# Altium footprint library thx208.PcbLib: 1 footprints
Each footprint in its own frame and in the unit in brackets; x right, y up, seen from the top. Pads: shape width x height; smd on the part's side, far side on the other; paste and mask are expansions set on the pad; w line width, h text height; cw(c..) or ccw(c..) is an arc to the next point about the centre after c.
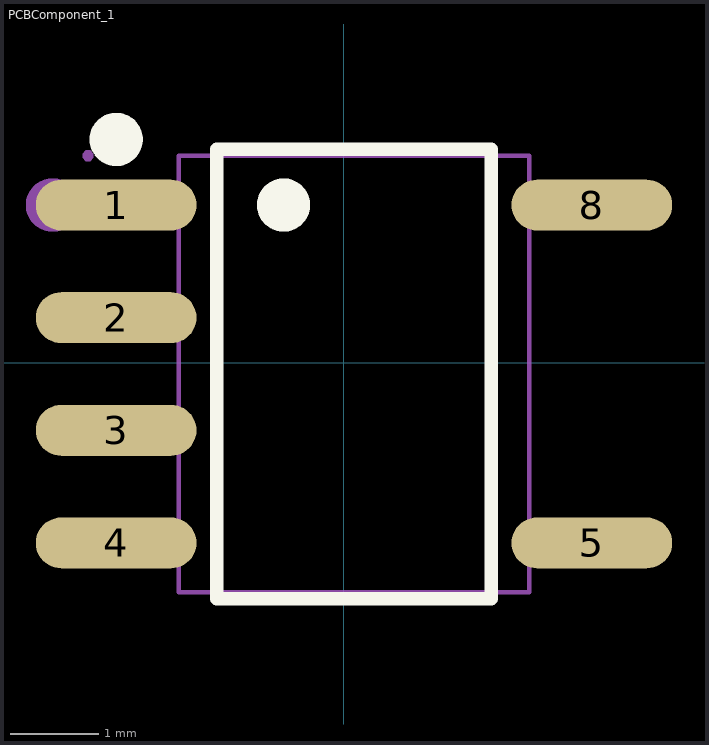
[diagram p0: the footprint, top view; thin cyan lines are the x and y axes]

## PCBComponent_1 [mil]
pads (6):
  oval 71.34x22.6 smd: 1(-101.1,70) 2(-101.1,20) 3(-101.1,-30) 4(-101.1,-80) 5(110,-80) 8(110,70)
Top Overlay:
  circle w11.81: c-101.1,99.11 r5.91
  circle w11.81: c-26.81,70 r5.91
  lines w6: -56.43,-104.85 -56.43,94.85 65.33,94.85 65.33,-104.85 -56.43,-104.85
Mechanical 6:
  circle w11.81: c-129.41,70 r5.91
Mechanical 15:
  region: 103.27,-71.93 81.81,-71.93 81.81,-88.07 103.27,-88.07
  region: 122.56,-71.93 102.88,-71.93 102.88,-88.07 122.56,-88.07
  region: 103.27,78.07 81.81,78.07 81.81,61.93 103.27,61.93
  region: 122.56,78.07 102.88,78.07 102.88,61.93 122.56,61.93
  region: -94.37,-71.93 -72.91,-71.93 -72.91,-88.07 -94.37,-88.07
  region: -113.66,-71.93 -93.97,-71.93 -93.97,-88.07 -113.66,-88.07
  region: -94.37,-21.93 -72.91,-21.93 -72.91,-38.07 -94.37,-38.07
  region: -113.66,-21.93 -93.97,-21.93 -93.97,-38.07 -113.66,-38.07
  region: -94.37,28.07 -72.91,28.07 -72.91,11.93 -94.37,11.93
  region: -113.66,28.07 -93.97,28.07 -93.97,11.93 -113.66,11.93
  region: -94.37,78.07 -72.91,78.07 -72.91,61.93 -94.37,61.93
  region: -113.66,78.07 -93.97,78.07 -93.97,61.93 -113.66,61.93
  region: -113.66,89.49 -114.64,89.49 -116.02,90.87 -116.02,92.83 -114.64,94.21 -113.66,94.21 -112.68,94.21 -111.3,92.83 -111.3,90.87 -112.68,89.49 -113.66,89.49
  lines w2: -73.31,-101.85 -73.31,91.85 82.21,91.85 82.21,-101.85 -73.31,-101.85